# EAGLE library part SDCARD (library P442)
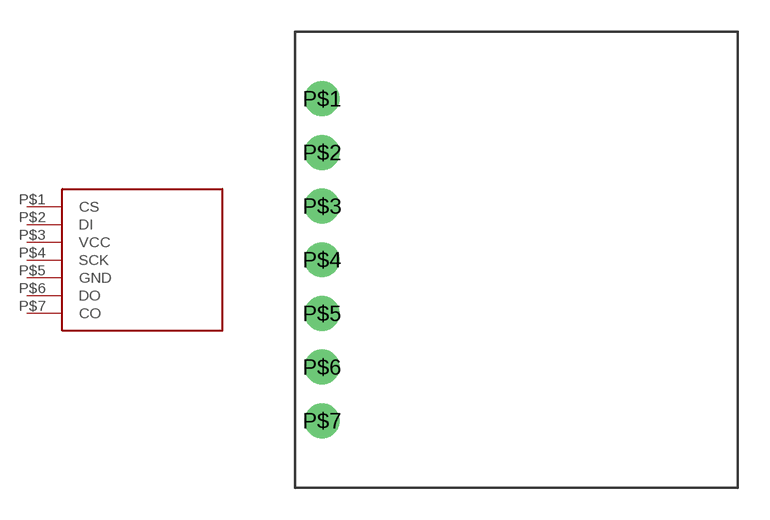
[diagram p10: symbol with the pads of SDCARD; footprint SDCARD]

Designator prefix -

## SDCARD  [SDCARD]
P$1  CS
P$2  DI
P$3  VCC
P$4  SCK
P$5  GND
P$6  DO
P$7  CO

## Footprint SDCARD (pad centres in mm)
drill 1.1: P$1 13.97,7.62; P$2 13.97,5.08; P$3 13.97,2.54; P$4 13.97,0; P$5 13.97,-2.54; P$6 13.97,-5.08; P$7 13.97,-7.62